# EAGLE library part PSTA-07 (library con-phoenix-350)
PSTA 1,5/XX-3,5 3.5 MM Terminal Block
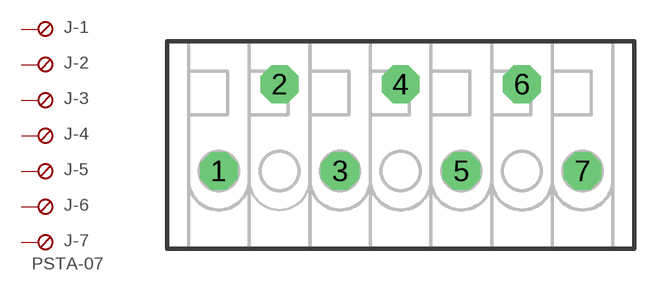
[diagram p2: symbol with the pads of PSTA-07; footprint PSTA-07]

Designator prefix J; gates -1=SKB -2=SKB -3=SKB -4=SKB -5=SKB -6=SKB -7=SKBU+V

## PSTA-07  [PSTA-07]
1  -1:S  pas
2  -2:S  pas
3  -3:S  pas
4  -4:S  pas
5  -5:S  pas
6  -6:S  pas
7  -7:S  pas

## Footprint PSTA-07 (pad centres in mm)
PTSA 1,5/7-3,5-Z 3.5mm
drill 1.016 pad 2.184 octagon: 1 -10.5,0; 2 -7,5; 3 -3.5,0; 4 0,5; 5 3.5,0; 6 7,5; 7 10.5,0